# EAGLE library part IMX6D (library nxp)
IC MPU I.MX6D 1.0GHZ 624FCBGA
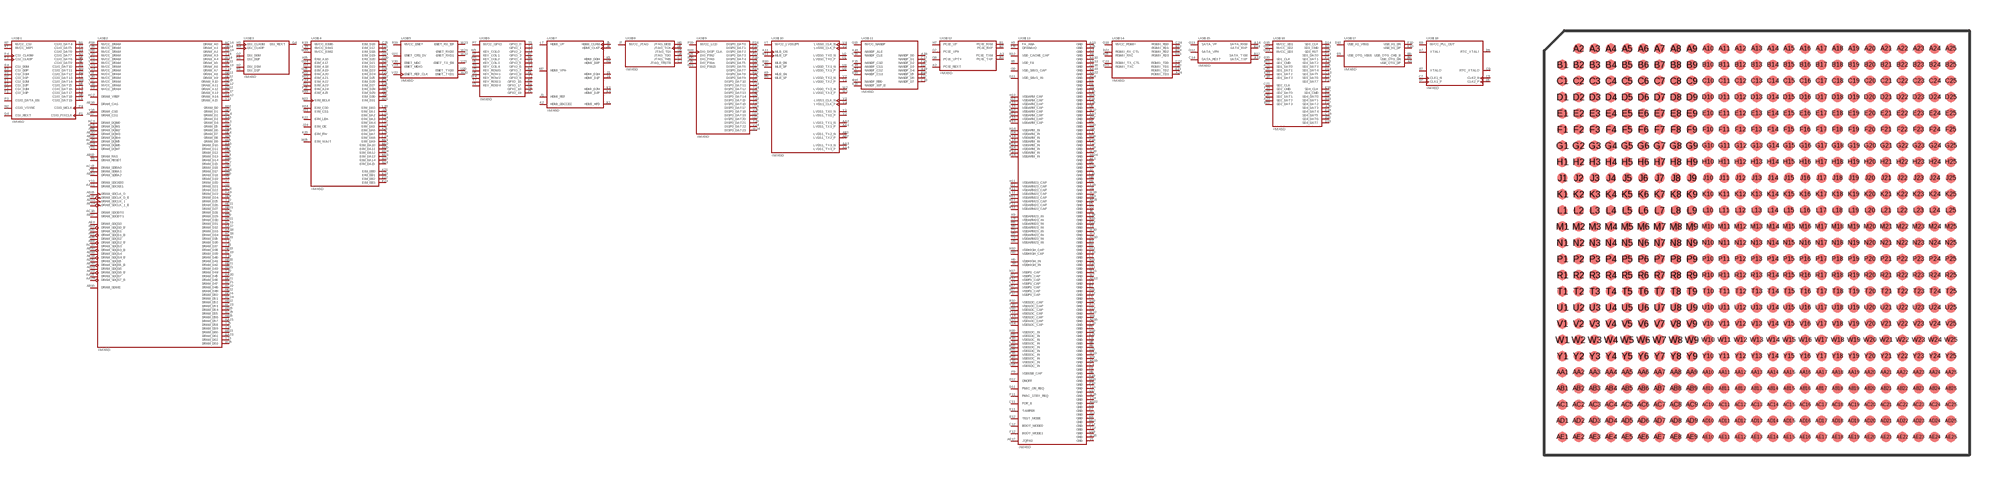
[diagram p1: symbol with the pads of FCPBGA-25X25; footprint FCPBGA-25X25]

Designator prefix U; gates G$1=IMX6D-CSI G$2=IMX6D-DRAM G$3=IMX6D-DSI G$4=IMX6D-EIM G$5=IMX6D-ENET G$6=IMX6D-GPIO G$7=IMX6D-HDMI G$8=IMX6D-JTAG G$9=IMX6D-LCD G$10=IMX6D-LVDS G$11=IMX6D-NANDF G$12=IMX6D-PCIE G$13=IMX6D-POWER G$14=IMX6D-RGMII G$15=IMX6D-SATA G$16=IMX6D-SD G$17=IMX6D-USB G$18=IMX6D-XTAL

## IMX6D  [FCPBGA-25X25]
A2  G$12:PCIE_REXT  pwr
A3  G$12:PCIE_TXM
A4  G$13:GND  pwr
A5  G$13:FA_ANA  pwr
A6  G$17:USB_OTG_DP
A7  G$18:XTALI
A8  G$13:GND  pwr
A9  G$10:MLB_SN
A10  G$10:MLB_DP
A11  G$10:MLB_CN
A12  G$15:SATA_TXP
A13  G$13:GND  pwr
A14  G$15:SATA_RXM
A15  G$16:SD3_DAT2
A16  G$11:NANDF_ALE
A17  G$11:NANDF_CS2
A18  G$11:NANDF_D0
A19  G$11:NANDF_D4
A20  G$16:SD4_DAT3
A21  G$16:SD1_DAT0
A22  G$16:SD2_DAT0
A23  G$16:SD2_DAT2
A24  G$14:RGMII_TD3
A25  G$13:GND  pwr
AA1  G$10:LVDS1_TX1_P
AA2  G$10:LVDS1_TX1_N
AA3  G$10:LVDS1_TX3_N
AA4  G$10:LVDS1_TX3_P
AA5  G$2:DRAM_D3
AA6  G$2:DRAM_D10
AA7  G$13:GND  pwr
AA8  G$2:DRAM_D17
AA9  G$2:DRAM_D23
AA10  G$13:GND  pwr
AA11  G$2:DRAM_SDCKE1
AA12  G$2:DRAM_A14
AA13  G$13:GND  pwr
AA14  G$2:DRAM_A2
AA15  G$2:DRAM_A10
AA16  G$13:GND  pwr
AA17  G$2:DRAM_D32
AA18  G$2:DRAM_D33
AA19  G$13:GND  pwr
AA20  G$2:DRAM_D45
AA21  G$2:DRAM_D57
AA22  G$13:GND  pwr
AA23  G$2:DRAM_D61
AA24  G$2:DRAM_SDQS7_B
AA25  G$2:DRAM_SDQS7
AB1  G$10:LVDS1_TX2_N
AB2  G$10:LVDS1_TX2_P
AB3  G$13:GND  pwr
AB4  G$2:DRAM_D6
AB5  G$2:DRAM_D12
AB6  G$2:DRAM_D14
AB7  G$2:DRAM_D16
AB8  G$2:DRAM_DQM2
AB9  G$2:DRAM_D18
AB10  G$2:DRAM_SDQS3_B
AB11  G$2:DRAM_D27
AB12  G$2:DRAM_SDBA2
AB13  G$2:DRAM_A8
AB14  G$2:DRAM_A1
AB15  G$2:DRAM_RAS
AB16  G$2:DRAM_SDWE
AB17  G$2:DRAM_SDODT1
AB18  G$2:DRAM_DQM4
AB19  G$2:DRAM_D38
AB20  G$2:DRAM_D41
AB21  G$2:DRAM_D42
AB22  G$2:DRAM_D52
AB23  G$2:DRAM_D60
AB24  G$13:GND  pwr
AB25  G$2:DRAM_D56
AC1  G$2:DRAM_D4
AC2  G$2:DRAM_VREF  pwr
AC3  G$2:DRAM_DQM0
AC4  G$2:DRAM_D2
AC5  G$2:DRAM_D13
AC6  G$2:DRAM_DQM1
AC7  G$2:DRAM_D15
AC8  G$2:DRAM_D22
AC9  G$2:DRAM_D28
AC10  G$2:DRAM_SDQS3
AC11  G$2:DRAM_D31
AC12  G$2:DRAM_A11
AC13  G$2:DRAM_A6
AC14  G$2:DRAM_A0
AC15  G$2:DRAM_SDBA0
AC16  G$2:DRAM_SDODT0
AC17  G$2:DRAM_A13
AC18  G$2:DRAM_D34
AC19  G$2:DRAM_D39
AC20  G$2:DRAM_DQM5
AC21  G$2:DRAM_D47
AC22  G$2:DRAM_D48
AC23  G$2:DRAM_D53
AC24  G$2:DRAM_D51
AC25  G$2:DRAM_D55
AD1  G$2:DRAM_D5
AD2  G$2:DRAM_D0
AD3  G$2:DRAM_SDQS0_B
AD4  G$13:GND  pwr
AD5  G$2:DRAM_D8
AD6  G$2:DRAM_SDQS1
AD7  G$13:GND  pwr
AD8  G$2:DRAM_SDQS2
AD9  G$2:DRAM_D29
AD10  G$13:GND  pwr
AD11  G$2:DRAM_D30
AD12  G$2:DRAM_A12
AD13  G$13:GND  pwr
AD14  G$2:DRAM_SDCLK_1
AD15  G$2:DRAM_SDCLK_0
AD16  G$13:GND  pwr
AD17  G$2:DRAM_CS1
AD18  G$2:DRAM_SDQS4
AD19  G$13:GND  pwr
AD20  G$2:DRAM_SDQS5
AD21  G$2:DRAM_D43
AD22  G$13:GND  pwr
AD23  G$2:DRAM_SDQS6
AD24  G$2:DRAM_DQM6
AD25  G$2:DRAM_D54
AE1  G$13:GND  pwr
AE2  G$2:DRAM_D1
AE3  G$2:DRAM_SDQS0
AE4  G$2:DRAM_D7
AE5  G$2:DRAM_D9
AE6  G$2:DRAM_SDQS1_B
AE7  G$2:DRAM_D11
AE8  G$2:DRAM_SDQS2_B
AE9  G$2:DRAM_D24
AE10  G$2:DRAM_DQM3
AE11  G$2:DRAM_D26
AE12  G$2:DRAM_A9
AE13  G$2:DRAM_A5
AE14  G$2:DRAM_SDCLK_1_B
AE15  G$2:DRAM_SDCLK_0_B
AE16  G$2:DRAM_CAS
AE17  G$13:ZQPAD  pwr
AE18  G$2:DRAM_SDQS4_B
AE19  G$2:DRAM_D35
AE20  G$2:DRAM_SDQS5_B
AE21  G$2:DRAM_D46
AE22  G$2:DRAM_D49
AE23  G$2:DRAM_SDQS6_B
AE24  G$2:DRAM_D50
AE25  G$13:GND  pwr
B1  G$12:PCIE_RXM
B2  G$12:PCIE_RXP
B3  G$12:PCIE_TXP
B4  G$13:GND  pwr
B5  G$13:VDD_FA  pwr
B6  G$17:USB_OTG_DN
B7  G$18:XTALO
B8  G$17:USB_OTG_CHD_B
B9  G$10:MLB_SP
B10  G$10:MLB_DN
B11  G$10:MLB_CP
B12  G$15:SATA_TXM
B13  G$16:SD3_CMD
B14  G$15:SATA_RXP
B15  G$16:SD3_DAT3
B16  G$11:NANDF_RB0
B17  G$16:SD4_CMD
B18  G$11:NANDF_D5
B19  G$16:SD4_DAT1
B20  G$16:SD4_DAT6
B21  G$16:SD1_CMD
B22  G$16:SD2_DAT3
B23  G$14:RGMII_RD1
B24  G$14:RGMII_RD2
B25  G$14:RGMII_RXC
C1  G$13:GND  pwr
C2  G$8:JTAG_TRSTB
C3  G$8:JTAG_TMS
C4  G$13:GND  pwr
C5  G$18:CLK2_N
C6  G$13:GND  pwr
C7  G$18:CLK1_N
C8  G$13:GPANAIO  pwr
C9  G$18:RTC_XTALO
C10  G$13:GND  pwr
C11  G$13:POR_B
C12  G$13:BOOT_MODE0
C13  G$16:SD3_DAT5
C14  G$15:SATA_REXT  pwr
C15  G$11:NANDF_CLE
C16  G$11:NANDF_CS1
C17  G$11:NANDF_D1
C18  G$11:NANDF_D7
C19  G$16:SD4_DAT5
C20  G$16:SD1_DAT1
C21  G$16:SD2_CLK
C22  G$14:RGMII_TD0
C23  G$14:RGMII_TX_CTL
C24  G$14:RGMII_RD0
C25  G$4:EIM_D16
D1  G$1:CSI_D1M
D2  G$1:CSI_D1P
D3  G$13:GND  pwr
D4  G$1:CSI_REXT  pwr
D5  G$18:CLK2_P
D6  G$13:GND  pwr
D7  G$18:CLK1_P
D8  G$13:GND  pwr
D9  G$18:RTC_XTALI
D10  G$17:USB_H1_VBUS  pwr
D11  G$13:PMIC_ON_REQ
D12  G$13:ONOFF
D13  G$16:SD3_DAT4
D14  G$16:SD3_CLK
D15  G$16:SD3_RST
D16  G$11:NANDF_CS3
D17  G$11:NANDF_D3
D18  G$16:SD4_DAT0
D19  G$16:SD4_DAT7
D20  G$16:SD1_CLK
D21  G$14:RGMII_TXC
D22  G$14:RGMII_RX_CTL
D23  G$14:RGMII_RD3
D24  G$4:EIM_D18
D25  G$4:EIM_D23
E1  G$1:CSI_D2M
E2  G$1:CSI_D2P
E3  G$1:CSI_D0P
E4  G$1:CSI_D0M
E5  G$13:GND  pwr
E6  G$13:GND  pwr
E7  G$13:GND  pwr
E8  G$18:NVCC_PLL_OUT  pwr
E9  G$17:USB_OTG_VBUS  pwr
E10  G$17:USB_H1_DP
E11  G$13:TAMPER
E12  G$13:TEST_MODE
E13  G$16:SD3_DAT6
E14  G$16:SD3_DAT0
E15  G$11:NANDF_WP_B
E16  G$16:SD4_CLK
E17  G$11:NANDF_D6
E18  G$16:SD4_DAT4
E19  G$16:SD1_DAT2
E20  G$16:SD2_DAT1
E21  G$14:RGMII_TD2
E22  G$4:EIM_EB2
E23  G$4:EIM_D22
E24  G$4:EIM_D26
E25  G$4:EIM_D27
F1  G$1:CSI_D3P
F2  G$1:CSI_D3M
F3  G$1:CSI_CLK0P
F4  G$1:CSI_CLK0M
F5  G$13:GND  pwr
F6  G$13:GND  pwr
F7  G$13:GND  pwr
F8  G$13:GND  pwr
F9  G$13:VDDUSB_CAP  pwr
F10  G$17:USB_H1_DN
F11  G$13:PMIC_STBY_REQ
F12  G$13:BOOT_MODE1
F13  G$16:SD3_DAT7
F14  G$16:SD3_DAT1
F15  G$11:NANDF_CS0
F16  G$11:NANDF_D2
F17  G$16:SD4_DAT2
F18  G$16:SD1_DAT3
F19  G$16:SD2_CMD
F20  G$14:RGMII_TD1
F21  G$4:EIM_D17
F22  G$4:EIM_D24
F23  G$4:EIM_EB3
F24  G$4:EIM_A22
F25  G$4:EIM_A24
G1  G$3:DSI_D0P
G2  G$3:DSI_D0M
G3  G$13:GND  pwr
G4  G$3:DSI_REXT  pwr
G5  G$8:JTAG_TDI
G6  G$8:JTAG_TDO
G7  G$12:PCIE_VPH  pwr
G8  G$12:PCIE_VPTX  pwr
G9  G$13:VDD_SNVS_CAP  pwr
G10  G$13:GND  pwr
G11  G$13:VDD_SNVS_IN  pwr
G12  G$15:SATA_VPH  pwr
G13  G$15:SATA_VP  pwr
G14  G$16:NVCC_SD3  pwr
G15  G$11:NVCC_NANDF  pwr
G16  G$16:NVCC_SD1  pwr
G17  G$16:NVCC_SD2  pwr
G18  G$14:NVCC_RGMII  pwr
G19  G$13:GND  pwr
G20  G$4:EIM_D20
G21  G$4:EIM_D19
G22  G$4:EIM_D25
G23  G$4:EIM_D28
G24  G$4:EIM_A17
G25  G$4:EIM_A19
H1  G$3:DSI_D1P
H2  G$3:DSI_D1M
H3  G$3:DSI_CLK0M
H4  G$3:DSI_CLK0P
H5  G$8:JTAG_TCK
H6  G$8:JTAG_MOD
H7  G$12:PCIE_VP  pwr
H8  G$13:GND  pwr
H9  G$13:VDDHIGH_IN  pwr
H10  G$13:VDDHIGH_CAP  pwr
H11  G$13:VDDARM23_CAP  pwr
H12  G$13:GND  pwr
H13  G$13:VDDARM_CAP  pwr
H14  G$13:VDDARM_IN  pwr
H15  G$13:GND  pwr
H16  G$13:VDDSOC_IN  pwr
H17  G$13:VDDPU_CAP  pwr
H18  G$13:GND  pwr
H19  G$4:EIM_A25
H20  G$4:EIM_D21
H21  G$4:EIM_D31
H22  G$4:EIM_A20
H23  G$4:EIM_A21
H24  G$4:EIM_CS0
H25  G$4:EIM_A16
J1  G$7:HDMI_REF  pwr
J2  G$13:GND  pwr
J3  G$7:HDMI_D1M  out
J4  G$7:HDMI_D1P  out
J5  G$7:HDMI_CLKM  out
J6  G$7:HDMI_CLKP  out
J7  G$8:NVCC_JTAG  pwr
J8  G$13:GND  pwr
J9  G$13:VDDHIGH_IN  pwr
J10  G$13:VDDHIGH_CAP  pwr
J11  G$13:VDDARM23_CAP  pwr
J12  G$13:GND  pwr
J13  G$13:VDDARM_CAP  pwr
J14  G$13:VDDARM_IN  pwr
J15  G$13:GND  pwr
J16  G$13:VDDSOC_IN  pwr
J17  G$13:VDDPU_CAP  pwr
J18  G$13:GND  pwr
J19  G$4:EIM_D29
J20  G$4:EIM_D30
J21  G$4:EIM_A23
J22  G$4:EIM_A18
J23  G$4:EIM_CS1
J24  G$4:EIM_OE
J25  G$4:EIM_DA1
K1  G$7:HDMI_HPD  out
K2  G$7:HDMI_DDCCEC  pwr
K3  G$7:HDMI_D2M  out
K4  G$7:HDMI_D2P  out
K5  G$7:HDMI_D0M  out
K6  G$7:HDMI_D0P  out
K7  G$1:NVCC_MIPI  pwr
K8  G$13:GND  pwr
K9  G$13:VDDARM23_IN  pwr
K10  G$13:GND  pwr
K11  G$13:VDDARM23_CAP  pwr
K12  G$13:GND  pwr
K13  G$13:VDDARM_CAP  pwr
K14  G$13:VDDARM_IN  pwr
K15  G$13:GND  pwr
K16  G$13:VDDSOC_IN  pwr
K17  G$13:VDDPU_CAP  pwr
K18  G$13:GND  pwr
K19  G$4:NVCC_EIM0  pwr
K20  G$4:EIM_RW
K21  G$4:EIM_EB0
K22  G$4:EIM_LBA
K23  G$4:EIM_EB1
K24  G$4:EIM_DA3
K25  G$4:EIM_DA6
L1  G$1:CSI0_DAT13
L2  G$13:GND  pwr
L3  G$1:CSI0_DAT17
L4  G$1:CSI0_DAT16
L5  G$13:GND  pwr
L6  G$1:CSI0_DAT19
L7  G$7:HDMI_VP  pwr
L8  G$13:GND  pwr
L9  G$13:VDDARM23_IN  pwr
L10  G$13:GND  pwr
L11  G$13:VDDARM23_CAP  pwr
L12  G$13:GND  pwr
L13  G$13:VDDARM_CAP  pwr
L14  G$13:VDDARM_IN  pwr
L15  G$13:GND  pwr
L16  G$13:VDDSOC_IN  pwr
L17  G$13:VDDPU_CAP  pwr
L18  G$13:GND  pwr
L19  G$4:NVCC_EIM1  pwr
L20  G$4:EIM_DA0
L21  G$4:EIM_DA2
L22  G$4:EIM_DA4
L23  G$4:EIM_DA5
L24  G$4:EIM_DA8
L25  G$4:EIM_DA7
M1  G$1:CSI0_DAT10
M2  G$1:CSI0_DAT12
M3  G$1:CSI0_DAT11
M4  G$1:CSI0_DAT14
M5  G$1:CSI0_DAT15
M6  G$1:CSI0_DAT18
M7  G$7:HDMI_VPH  pwr
M8  G$13:GND  pwr
M9  G$13:VDDARM23_IN  pwr
M10  G$13:GND  pwr
M11  G$13:VDDARM23_CAP  pwr
M12  G$13:GND  pwr
M13  G$13:VDDARM_CAP  pwr
M14  G$13:VDDARM_IN  pwr
M15  G$13:GND  pwr
M16  G$13:VDDSOC_IN  pwr
M17  G$13:VDDPU_CAP  pwr
M18  G$13:GND  pwr
M19  G$4:NVCC_EIM2  pwr
M20  G$4:EIM_DA11
M21  G$4:EIM_DA9
M22  G$4:EIM_DA10
M23  G$4:EIM_DA13
M24  G$4:EIM_DA12
M25  G$4:EIM_WAIT
N1  G$1:CSI0_DAT4
N2  G$1:CSI0_VSYNC
N3  G$1:CSI0_DAT7
N4  G$1:CSI0_DAT6
N5  G$1:CSI0_DAT9
N6  G$1:CSI0_DAT8
N7  G$1:NVCC_CSI  pwr
N8  G$13:GND  pwr
N9  G$13:VDDARM23_IN  pwr
N10  G$13:GND  pwr
N11  G$13:VDDARM23_CAP  pwr
N12  G$13:VDD_CACHE_CAP  pwr
N13  G$13:VDDARM_CAP  pwr
N14  G$13:VDDARM_IN  pwr
N15  G$13:GND  pwr
N16  G$13:VDDSOC_IN  pwr
N17  G$13:VDDPU_CAP  pwr
N18  G$13:GND  pwr
N19  G$9:DI0_DISP_CLK
N20  G$9:DI0_PIN3
N21  G$9:DI0_PIN15
N22  G$4:EIM_BCLK
N23  G$4:EIM_DA14
N24  G$4:EIM_DA15
N25  G$9:DI0_PIN2
P1  G$1:CSI0_PIXCLK
P2  G$1:CSI0_DAT5
P3  G$1:CSI0_DATA_EN
P4  G$1:CSI0_MCLK
P5  G$6:GPIO_19
P6  G$6:GPIO_18
P7  G$6:NVCC_GPIO  pwr
P8  G$13:GND  pwr
P9  G$13:VDDARM23_IN  pwr
P10  G$13:GND  pwr
P11  G$13:VDDARM23_CAP  pwr
P12  G$13:GND  pwr
P13  G$13:VDDARM_CAP  pwr
P14  G$13:VDDARM_IN  pwr
P15  G$13:GND  pwr
P16  G$13:VDDSOC_IN  pwr
P17  G$13:VDDPU_CAP  pwr
P18  G$13:GND  pwr
P19  G$9:NVCC_LCD  pwr
P20  G$9:DISP0_DAT4
P21  G$9:DISP0_DAT3
P22  G$9:DISP0_DAT1
P23  G$9:DISP0_DAT2
P24  G$9:DISP0_DAT0
P25  G$9:DI0_PIN4
R1  G$6:GPIO_17
R2  G$6:GPIO_16
R3  G$6:GPIO_7
R4  G$6:GPIO_5
R5  G$6:GPIO_8
R6  G$6:GPIO_4
R7  G$6:GPIO_3
R8  G$13:GND  pwr
R9  G$13:VDDARM23_IN  pwr
R10  G$13:VDDSOC_CAP  pwr
R11  G$13:VDDARM23_CAP  pwr
R12  G$13:GND  pwr
R13  G$13:VDDARM_CAP  pwr
R14  G$13:VDDARM_IN  pwr
R15  G$13:GND  pwr
R16  G$13:VDDSOC_IN  pwr
R17  G$13:GND  pwr
R18  G$2:NVCC_DRAM  pwr
R19  G$5:NVCC_ENET  pwr
R20  G$9:DISP0_DAT13
R21  G$9:DISP0_DAT10
R22  G$9:DISP0_DAT8
R23  G$9:DISP0_DAT6
R24  G$9:DISP0_DAT7
R25  G$9:DISP0_DAT5
T1  G$6:GPIO_2
T2  G$6:GPIO_9
T3  G$6:GPIO_6
T4  G$6:GPIO_1
T5  G$6:GPIO_0
T6  G$6:KEY_COL4
T7  G$6:KEY_ROW3
T8  G$13:GND  pwr
T9  G$13:VDDARM23_IN  pwr
T10  G$13:VDDSOC_CAP  pwr
T11  G$13:GND  pwr
T12  G$13:GND  pwr
T13  G$13:VDDSOC_CAP  pwr
T14  G$13:VDDSOC_CAP  pwr
T15  G$13:GND  pwr
T16  G$13:VDDSOC_IN  pwr
T17  G$13:GND  pwr
T18  G$2:NVCC_DRAM  pwr
T19  G$13:GND  pwr
T20  G$9:DISP0_DAT21
T21  G$9:DISP0_DAT16
T22  G$9:DISP0_DAT15
T23  G$9:DISP0_DAT11
T24  G$9:DISP0_DAT12
T25  G$9:DISP0_DAT9
U1  G$10:LVDS0_TX0_P
U2  G$10:LVDS0_TX0_N
U3  G$10:LVDS0_TX1_P
U4  G$10:LVDS0_TX1_N
U5  G$6:KEY_COL3
U6  G$6:KEY_ROW1
U7  G$6:KEY_COL1
U8  G$13:GND  pwr
U9  G$13:VDDARM23_IN  pwr
U10  G$13:VDDSOC_CAP  pwr
U11  G$13:GND  pwr
U12  G$13:GND  pwr
U13  G$13:VDDSOC_CAP  pwr
U14  G$13:VDDSOC_CAP  pwr
U15  G$13:GND  pwr
U16  G$13:VDDSOC_IN  pwr
U17  G$13:GND  pwr
U18  G$2:NVCC_DRAM  pwr
U19  G$13:GND  pwr
U20  G$5:ENET_TXD0
U21  G$5:ENET_CRS_DV
U22  G$9:DISP0_DAT20
U23  G$9:DISP0_DAT19
U24  G$9:DISP0_DAT17
U25  G$9:DISP0_DAT14
V1  G$10:LVDS0_TX2_P
V2  G$10:LVDS0_TX2_N
V3  G$10:LVDS0_CLK_P
V4  G$10:LVDS0_CLK_N
V5  G$6:KEY_ROW4
V6  G$6:KEY_ROW0
V7  G$10:NVCC_LVDS2P5  pwr
V8  G$13:GND  pwr
V9  G$2:NVCC_DRAM  pwr
V10  G$2:NVCC_DRAM  pwr
V11  G$2:NVCC_DRAM  pwr
V12  G$2:NVCC_DRAM  pwr
V13  G$2:NVCC_DRAM  pwr
V14  G$2:NVCC_DRAM  pwr
V15  G$2:NVCC_DRAM  pwr
V16  G$2:NVCC_DRAM  pwr
V17  G$2:NVCC_DRAM  pwr
V18  G$2:NVCC_DRAM  pwr
V19  G$13:GND  pwr
V20  G$5:ENET_MDC
V21  G$5:ENET_TX_EN
V22  G$5:ENET_REF_CLK
V23  G$5:ENET_MDIO
V24  G$9:DISP0_DAT22
V25  G$9:DISP0_DAT18
W1  G$10:LVDS0_TX3_P
W2  G$10:LVDS0_TX3_N
W3  G$13:GND  pwr
W4  G$6:KEY_ROW2
W5  G$6:KEY_COL0
W6  G$6:KEY_COL2
W7  G$13:GND  pwr
W8  G$13:GND  pwr
W9  G$13:GND  pwr
W10  G$13:GND  pwr
W11  G$13:GND  pwr
W12  G$13:GND  pwr
W13  G$13:GND  pwr
W14  G$2:DRAM_A4
W15  G$13:GND  pwr
W16  G$13:GND  pwr
W17  G$13:GND  pwr
W18  G$13:GND  pwr
W19  G$13:GND  pwr
W20  G$5:ENET_TXD1
W21  G$5:ENET_RXD0
W22  G$5:ENET_RXD1
W23  G$5:ENET_RX_ER
W24  G$9:DISP0_DAT23
W25  G$2:DRAM_D63
Y1  G$10:LVDS1_TX0_N
Y2  G$10:LVDS1_TX0_P
Y3  G$10:LVDS1_CLK_N
Y4  G$10:LVDS1_CLK_P
Y5  G$13:GND  pwr
Y6  G$2:DRAM_RESET
Y7  G$2:DRAM_D20
Y8  G$2:DRAM_D21
Y9  G$2:DRAM_D19
Y10  G$2:DRAM_D25
Y11  G$2:DRAM_SDCKE0
Y12  G$2:DRAM_A15
Y13  G$2:DRAM_A7
Y14  G$2:DRAM_A3
Y15  G$2:DRAM_SDBA1
Y16  G$2:DRAM_CS0
Y17  G$2:DRAM_D36
Y18  G$2:DRAM_D37
Y19  G$2:DRAM_D40
Y20  G$2:DRAM_D44
Y21  G$2:DRAM_DQM7
Y22  G$2:DRAM_D59
Y23  G$2:DRAM_D62
Y24  G$13:GND  pwr
Y25  G$2:DRAM_D58

## Footprint FCPBGA-25X25 (pad centres in mm)
smd 0.5 x 0.5: A2 -8.8,9.6; A3 -8,9.6; A4 -7.2,9.6; A5 -6.4,9.6; A6 -5.6,9.6; A7 -4.8,9.6; A8 -4,9.6; A9 -3.2,9.6; A10 -2.4,9.6; A11 -1.6,9.6; A12 -0.8,9.6; A13 0,9.6; A14 0.8,9.6; A15 1.6,9.6; A16 2.4,9.6; A17 3.2,9.6; A18 4,9.6; A19 4.8,9.6; A20 5.6,9.6; A21 6.4,9.6; A22 7.2,9.6; A23 8,9.6; A24 8.8,9.6; A25 9.6,9.6; AA1 -9.6,-6.4; AA2 -8.8,-6.4; AA3 -8,-6.4; AA4 -7.2,-6.4; AA5 -6.4,-6.4; AA6 -5.6,-6.4; AA7 -4.8,-6.4; AA8 -4,-6.4; AA9 -3.2,-6.4; AA10 -2.4,-6.4; AA11 -1.6,-6.4; AA12 -0.8,-6.4; AA13 0,-6.4; AA14 0.8,-6.4; AA15 1.6,-6.4; AA16 2.4,-6.4; AA17 3.2,-6.4; AA18 4,-6.4; AA19 4.8,-6.4; AA20 5.6,-6.4; AA21 6.4,-6.4; AA22 7.2,-6.4; AA23 8,-6.4; AA24 8.8,-6.4; AA25 9.6,-6.4; AB1 -9.6,-7.2; AB2 -8.8,-7.2; AB3 -8,-7.2; AB4 -7.2,-7.2; AB5 -6.4,-7.2; AB6 -5.6,-7.2; AB7 -4.8,-7.2; AB8 -4,-7.2; AB9 -3.2,-7.2; AB10 -2.4,-7.2; AB11 -1.6,-7.2; AB12 -0.8,-7.2; AB13 0,-7.2; AB14 0.8,-7.2; AB15 1.6,-7.2; AB16 2.4,-7.2; AB17 3.2,-7.2; AB18 4,-7.2; AB19 4.8,-7.2; AB20 5.6,-7.2; AB21 6.4,-7.2; AB22 7.2,-7.2; AB23 8,-7.2; AB24 8.8,-7.2; AB25 9.6,-7.2; AC1 -9.6,-8; AC2 -8.8,-8; AC3 -8,-8; AC4 -7.2,-8; AC5 -6.4,-8; AC6 -5.6,-8; AC7 -4.8,-8; AC8 -4,-8; AC9 -3.2,-8; AC10 -2.4,-8; AC11 -1.6,-8; AC12 -0.8,-8; AC13 0,-8; AC14 0.8,-8; AC15 1.6,-8; AC16 2.4,-8; AC17 3.2,-8; AC18 4,-8; AC19 4.8,-8; AC20 5.6,-8; AC21 6.4,-8; AC22 7.2,-8; AC23 8,-8; AC24 8.8,-8; AC25 9.6,-8; AD1 -9.6,-8.8; AD2 -8.8,-8.8; AD3 -8,-8.8; AD4 -7.2,-8.8; AD5 -6.4,-8.8; AD6 -5.6,-8.8; AD7 -4.8,-8.8; AD8 -4,-8.8; AD9 -3.2,-8.8; AD10 -2.4,-8.8; AD11 -1.6,-8.8; AD12 -0.8,-8.8; AD13 0,-8.8; AD14 0.8,-8.8; AD15 1.6,-8.8; AD16 2.4,-8.8; AD17 3.2,-8.8; AD18 4,-8.8; AD19 4.8,-8.8; AD20 5.6,-8.8; AD21 6.4,-8.8; AD22 7.2,-8.8; AD23 8,-8.8; AD24 8.8,-8.8; AD25 9.6,-8.8; AE1 -9.6,-9.6; AE2 -8.8,-9.6; AE3 -8,-9.6; AE4 -7.2,-9.6; AE5 -6.4,-9.6; AE6 -5.6,-9.6; AE7 -4.8,-9.6; AE8 -4,-9.6; AE9 -3.2,-9.6; AE10 -2.4,-9.6; AE11 -1.6,-9.6; AE12 -0.8,-9.6; AE13 0,-9.6; AE14 0.8,-9.6; AE15 1.6,-9.6; AE16 2.4,-9.6; AE17 3.2,-9.6; AE18 4,-9.6; AE19 4.8,-9.6; AE20 5.6,-9.6; AE21 6.4,-9.6; AE22 7.2,-9.6; AE23 8,-9.6; AE24 8.8,-9.6; AE25 9.6,-9.6; B1 -9.6,8.8; B2 -8.8,8.8; B3 -8,8.8; B4 -7.2,8.8; B5 -6.4,8.8; B6 -5.6,8.8; B7 -4.8,8.8; B8 -4,8.8; B9 -3.2,8.8; B10 -2.4,8.8; B11 -1.6,8.8; B12 -0.8,8.8; B13 0,8.8; B14 0.8,8.8; B15 1.6,8.8; B16 2.4,8.8; B17 3.2,8.8; B18 4,8.8; B19 4.8,8.8; B20 5.6,8.8; B21 6.4,8.8; B22 7.2,8.8; B23 8,8.8; B24 8.8,8.8; B25 9.6,8.8; C1 -9.6,8; C2 -8.8,8; C3 -8,8; C4 -7.2,8; C5 -6.4,8; C6 -5.6,8; C7 -4.8,8; C8 -4,8; C9 -3.2,8; C10 -2.4,8; C11 -1.6,8; C12 -0.8,8; C13 0,8; C14 0.8,8; C15 1.6,8; C16 2.4,8; C17 3.2,8; C18 4,8; C19 4.8,8; C20 5.6,8; C21 6.4,8; C22 7.2,8; C23 8,8; C24 8.8,8; C25 9.6,8; D1 -9.6,7.2; D2 -8.8,7.2; D3 -8,7.2; D4 -7.2,7.2; D5 -6.4,7.2; D6 -5.6,7.2; D7 -4.8,7.2; D8 -4,7.2; D9 -3.2,7.2; D10 -2.4,7.2; D11 -1.6,7.2; D12 -0.8,7.2; D13 0,7.2; D14 0.8,7.2; D15 1.6,7.2; D16 2.4,7.2; D17 3.2,7.2; D18 4,7.2; D19 4.8,7.2; D20 5.6,7.2; D21 6.4,7.2; D22 7.2,7.2; D23 8,7.2; D24 8.8,7.2; D25 9.6,7.2; E1 -9.6,6.4; E2 -8.8,6.4; E3 -8,6.4; E4 -7.2,6.4; E5 -6.4,6.4; E6 -5.6,6.4; E7 -4.8,6.4; E8 -4,6.4; E9 -3.2,6.4; E10 -2.4,6.4; E11 -1.6,6.4; E12 -0.8,6.4; E13 0,6.4; E14 0.8,6.4; E15 1.6,6.4; E16 2.4,6.4; E17 3.2,6.4; E18 4,6.4; E19 4.8,6.4; E20 5.6,6.4; E21 6.4,6.4; E22 7.2,6.4; E23 8,6.4; E24 8.8,6.4; E25 9.6,6.4; F1 -9.6,5.6; F2 -8.8,5.6; F3 -8,5.6; F4 -7.2,5.6; F5 -6.4,5.6; F6 -5.6,5.6; F7 -4.8,5.6; F8 -4,5.6; F9 -3.2,5.6; F10 -2.4,5.6; F11 -1.6,5.6; F12 -0.8,5.6; F13 0,5.6; F14 0.8,5.6; F15 1.6,5.6; F16 2.4,5.6; F17 3.2,5.6; F18 4,5.6; F19 4.8,5.6; F20 5.6,5.6; F21 6.4,5.6; F22 7.2,5.6; F23 8,5.6; F24 8.8,5.6; F25 9.6,5.6; G1 -9.6,4.8; G2 -8.8,4.8; G3 -8,4.8; G4 -7.2,4.8; G5 -6.4,4.8; G6 -5.6,4.8; G7 -4.8,4.8; G8 -4,4.8; G9 -3.2,4.8; G10 -2.4,4.8; G11 -1.6,4.8; G12 -0.8,4.8; G13 0,4.8; G14 0.8,4.8; G15 1.6,4.8; G16 2.4,4.8; G17 3.2,4.8; G18 4,4.8; G19 4.8,4.8; G20 5.6,4.8; G21 6.4,4.8; G22 7.2,4.8; G23 8,4.8; G24 8.8,4.8; G25 9.6,4.8; H1 -9.6,4; H2 -8.8,4; H3 -8,4; H4 -7.2,4; H5 -6.4,4; H6 -5.6,4; H7 -4.8,4; H8 -4,4; H9 -3.2,4; H10 -2.4,4; H11 -1.6,4; H12 -0.8,4; H13 0,4; H14 0.8,4; H15 1.6,4; H16 2.4,4; H17 3.2,4; H18 4,4; H19 4.8,4; H20 5.6,4; H21 6.4,4; H22 7.2,4; H23 8,4; H24 8.8,4; H25 9.6,4; J1 -9.6,3.2; J2 -8.8,3.2; J3 -8,3.2; J4 -7.2,3.2; J5 -6.4,3.2; J6 -5.6,3.2; J7 -4.8,3.2; J8 -4,3.2; J9 -3.2,3.2; J10 -2.4,3.2; J11 -1.6,3.2; J12 -0.8,3.2; J13 0,3.2; J14 0.8,3.2; J15 1.6,3.2; J16 2.4,3.2; J17 3.2,3.2; J18 4,3.2; J19 4.8,3.2; J20 5.6,3.2; J21 6.4,3.2; J22 7.2,3.2; J23 8,3.2; J24 8.8,3.2; J25 9.6,3.2; K1 -9.6,2.4; K2 -8.8,2.4; K3 -8,2.4; K4 -7.2,2.4; K5 -6.4,2.4; K6 -5.6,2.4; K7 -4.8,2.4; K8 -4,2.4; K9 -3.2,2.4; K10 -2.4,2.4; K11 -1.6,2.4; K12 -0.8,2.4; K13 0,2.4; K14 0.8,2.4; K15 1.6,2.4; K16 2.4,2.4; K17 3.2,2.4; K18 4,2.4; K19 4.8,2.4; K20 5.6,2.4; K21 6.4,2.4; K22 7.2,2.4; K23 8,2.4; K24 8.8,2.4; K25 9.6,2.4; L1 -9.6,1.6; L2 -8.8,1.6; L3 -8,1.6; L4 -7.2,1.6; L5 -6.4,1.6; L6 -5.6,1.6; L7 -4.8,1.6; L8 -4,1.6; L9 -3.2,1.6; L10 -2.4,1.6; L11 -1.6,1.6; L12 -0.8,1.6; L13 0,1.6; L14 0.8,1.6; L15 1.6,1.6; L16 2.4,1.6; L17 3.2,1.6; L18 4,1.6; L19 4.8,1.6; L20 5.6,1.6; L21 6.4,1.6; L22 7.2,1.6; L23 8,1.6; L24 8.8,1.6; L25 9.6,1.6; M1 -9.6,0.8; M2 -8.8,0.8; M3 -8,0.8; M4 -7.2,0.8; M5 -6.4,0.8; M6 -5.6,0.8; M7 -4.8,0.8; M8 -4,0.8; M9 -3.2,0.8; M10 -2.4,0.8; M11 -1.6,0.8; M12 -0.8,0.8; M13 0,0.8; M14 0.8,0.8; M15 1.6,0.8; M16 2.4,0.8; M17 3.2,0.8; M18 4,0.8; M19 4.8,0.8; M20 5.6,0.8; M21 6.4,0.8; M22 7.2,0.8; M23 8,0.8; M24 8.8,0.8; M25 9.6,0.8; N1 -9.6,0; N2 -8.8,0; N3 -8,0; N4 -7.2,0; N5 -6.4,0; N6 -5.6,0; N7 -4.8,0; N8 -4,0; N9 -3.2,0; N10 -2.4,0; N11 -1.6,0; N12 -0.8,0; N13 0,0; N14 0.8,0; N15 1.6,0; N16 2.4,0; N17 3.2,0; N18 4,0; N19 4.8,0; N20 5.6,0; N21 6.4,0; N22 7.2,0; N23 8,0; N24 8.8,0; N25 9.6,0; P1 -9.6,-0.8; P2 -8.8,-0.8; P3 -8,-0.8; P4 -7.2,-0.8; P5 -6.4,-0.8; P6 -5.6,-0.8; P7 -4.8,-0.8; P8 -4,-0.8; P9 -3.2,-0.8; P10 -2.4,-0.8; P11 -1.6,-0.8; P12 -0.8,-0.8; P13 0,-0.8; P14 0.8,-0.8; P15 1.6,-0.8; P16 2.4,-0.8; P17 3.2,-0.8; P18 4,-0.8; P19 4.8,-0.8; P20 5.6,-0.8; P21 6.4,-0.8; P22 7.2,-0.8; P23 8,-0.8; P24 8.8,-0.8; P25 9.6,-0.8; R1 -9.6,-1.6; R2 -8.8,-1.6; R3 -8,-1.6; R4 -7.2,-1.6; R5 -6.4,-1.6; R6 -5.6,-1.6; R7 -4.8,-1.6; R8 -4,-1.6; R9 -3.2,-1.6; R10 -2.4,-1.6; R11 -1.6,-1.6; R12 -0.8,-1.6; R13 0,-1.6; R14 0.8,-1.6; R15 1.6,-1.6; R16 2.4,-1.6; R17 3.2,-1.6; R18 4,-1.6; R19 4.8,-1.6; R20 5.6,-1.6; R21 6.4,-1.6; R22 7.2,-1.6; R23 8,-1.6; R24 8.8,-1.6; R25 9.6,-1.6; T1 -9.6,-2.4; T2 -8.8,-2.4; T3 -8,-2.4; T4 -7.2,-2.4; T5 -6.4,-2.4; T6 -5.6,-2.4; T7 -4.8,-2.4; T8 -4,-2.4; T9 -3.2,-2.4; T10 -2.4,-2.4; T11 -1.6,-2.4; T12 -0.8,-2.4; T13 0,-2.4; T14 0.8,-2.4; T15 1.6,-2.4; T16 2.4,-2.4; T17 3.2,-2.4; T18 4,-2.4; T19 4.8,-2.4; T20 5.6,-2.4; T21 6.4,-2.4; T22 7.2,-2.4; T23 8,-2.4; T24 8.8,-2.4; T25 9.6,-2.4; U1 -9.6,-3.2; U2 -8.8,-3.2; U3 -8,-3.2; U4 -7.2,-3.2; U5 -6.4,-3.2; U6 -5.6,-3.2; U7 -4.8,-3.2; U8 -4,-3.2; U9 -3.2,-3.2; U10 -2.4,-3.2; U11 -1.6,-3.2; U12 -0.8,-3.2; U13 0,-3.2; U14 0.8,-3.2; U15 1.6,-3.2; U16 2.4,-3.2; U17 3.2,-3.2; U18 4,-3.2; U19 4.8,-3.2; U20 5.6,-3.2; U21 6.4,-3.2; U22 7.2,-3.2; U23 8,-3.2; U24 8.8,-3.2; U25 9.6,-3.2; V1 -9.6,-4; V2 -8.8,-4; V3 -8,-4; V4 -7.2,-4; V5 -6.4,-4; V6 -5.6,-4; V7 -4.8,-4; V8 -4,-4; V9 -3.2,-4; V10 -2.4,-4; V11 -1.6,-4; V12 -0.8,-4; V13 0,-4; V14 0.8,-4; V15 1.6,-4; V16 2.4,-4; V17 3.2,-4; V18 4,-4; V19 4.8,-4; V20 5.6,-4; V21 6.4,-4; V22 7.2,-4; V23 8,-4; V24 8.8,-4; V25 9.6,-4; W1 -9.6,-4.8; W2 -8.8,-4.8; W3 -8,-4.8; W4 -7.2,-4.8; W5 -6.4,-4.8; W6 -5.6,-4.8; W7 -4.8,-4.8; W8 -4,-4.8; W9 -3.2,-4.8; W10 -2.4,-4.8; W11 -1.6,-4.8; W12 -0.8,-4.8; W13 0,-4.8; W14 0.8,-4.8; W15 1.6,-4.8; W16 2.4,-4.8; W17 3.2,-4.8; W18 4,-4.8; W19 4.8,-4.8; W20 5.6,-4.8; W21 6.4,-4.8; W22 7.2,-4.8; W23 8,-4.8; W24 8.8,-4.8; W25 9.6,-4.8; Y1 -9.6,-5.6; Y2 -8.8,-5.6; Y3 -8,-5.6; Y4 -7.2,-5.6; Y5 -6.4,-5.6; Y6 -5.6,-5.6; Y7 -4.8,-5.6; Y8 -4,-5.6; Y9 -3.2,-5.6; Y10 -2.4,-5.6; Y11 -1.6,-5.6; Y12 -0.8,-5.6; Y13 0,-5.6; Y14 0.8,-5.6; Y15 1.6,-5.6; Y16 2.4,-5.6; Y17 3.2,-5.6; Y18 4,-5.6; Y19 4.8,-5.6; Y20 5.6,-5.6; Y21 6.4,-5.6; Y22 7.2,-5.6; Y23 8,-5.6; Y24 8.8,-5.6; Y25 9.6,-5.6